# EAGLE library part EXB-38V121JV (library Localization-Daughter-Board)
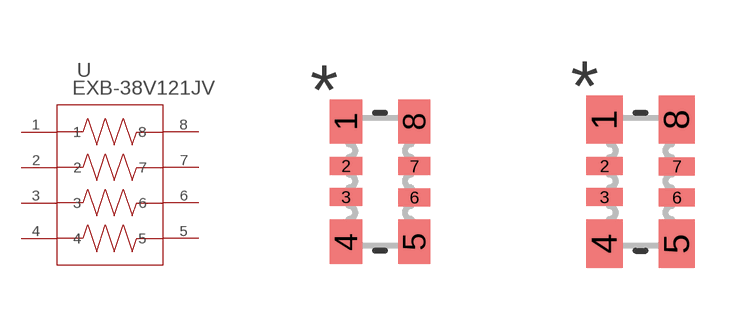
[diagram p4: symbol with the pads of C_ARRAY_EXB38V; footprints C_ARRAY_EXB38V, C_ARRAY_EXB38V-M]

Designator prefix U

## EXB-38V121JV (MANUFACTURER_PART_NUMBER: EXB38V121JV; VENDOR: Panasonic)  [C_ARRAY_EXB38V]
1  1  pas
2  2  pas
3  3  pas
4  4  pas
5  5  pas
6  6  pas
7  7  pas
8  8  pas

## EXB-38V121JVC_ARRAY_EXB38V-M (MANUFACTURER_PART_NUMBER: EXB38V121JV; VENDOR: Panasonic)  [C_ARRAY_EXB38V-M]
Pads as for C_ARRAY_EXB38V

## EXB-38V121JVC_ARRAY_EXB38V-L (MANUFACTURER_PART_NUMBER: EXB38V121JV; VENDOR: Panasonic)  [C_ARRAY_EXB38V-L]
Pads as for C_ARRAY_EXB38V

## Footprint C_ARRAY_EXB38V (pad centres in mm)
smd 0.807 x 1.107: 1 -0.854,1.504; 4 -0.854,-1.504; 5 0.854,-1.504; 8 0.854,1.504
smd 0.807 x 0.45: 2 -0.854,0.395; 3 -0.854,-0.385; 6 0.854,-0.395; 7 0.854,0.385

## Footprint C_ARRAY_EXB38V-M (pad centres in mm)
smd 0.909 x 1.209: 1 -0.904,1.554; 4 -0.904,-1.554; 5 0.904,-1.554; 8 0.904,1.554
smd 0.909 x 0.45: 2 -0.904,0.395; 3 -0.904,-0.385; 6 0.904,-0.395; 7 0.904,0.385

## Footprint C_ARRAY_EXB38V-L (pad centres in mm)
smd 0.706 x 1.006: 1 -0.803,1.453; 4 -0.803,-1.453; 5 0.803,-1.453; 8 0.803,1.453
smd 0.706 x 0.45: 2 -0.803,0.395; 3 -0.803,-0.385; 6 0.803,-0.395; 7 0.803,0.385